# Altium footprint library DIP - LED Display.PcbLib: 44 footprints (part 2 of 3)
Each footprint in its own frame and in the unit in brackets; x right, y up, seen from the top. Pads: shape width x height; smd on the part's side, far side on the other; paste and mask are expansions set on the pad; w line width, h text height; cw(c..) or ccw(c..) is an arc to the next point about the centre after c.
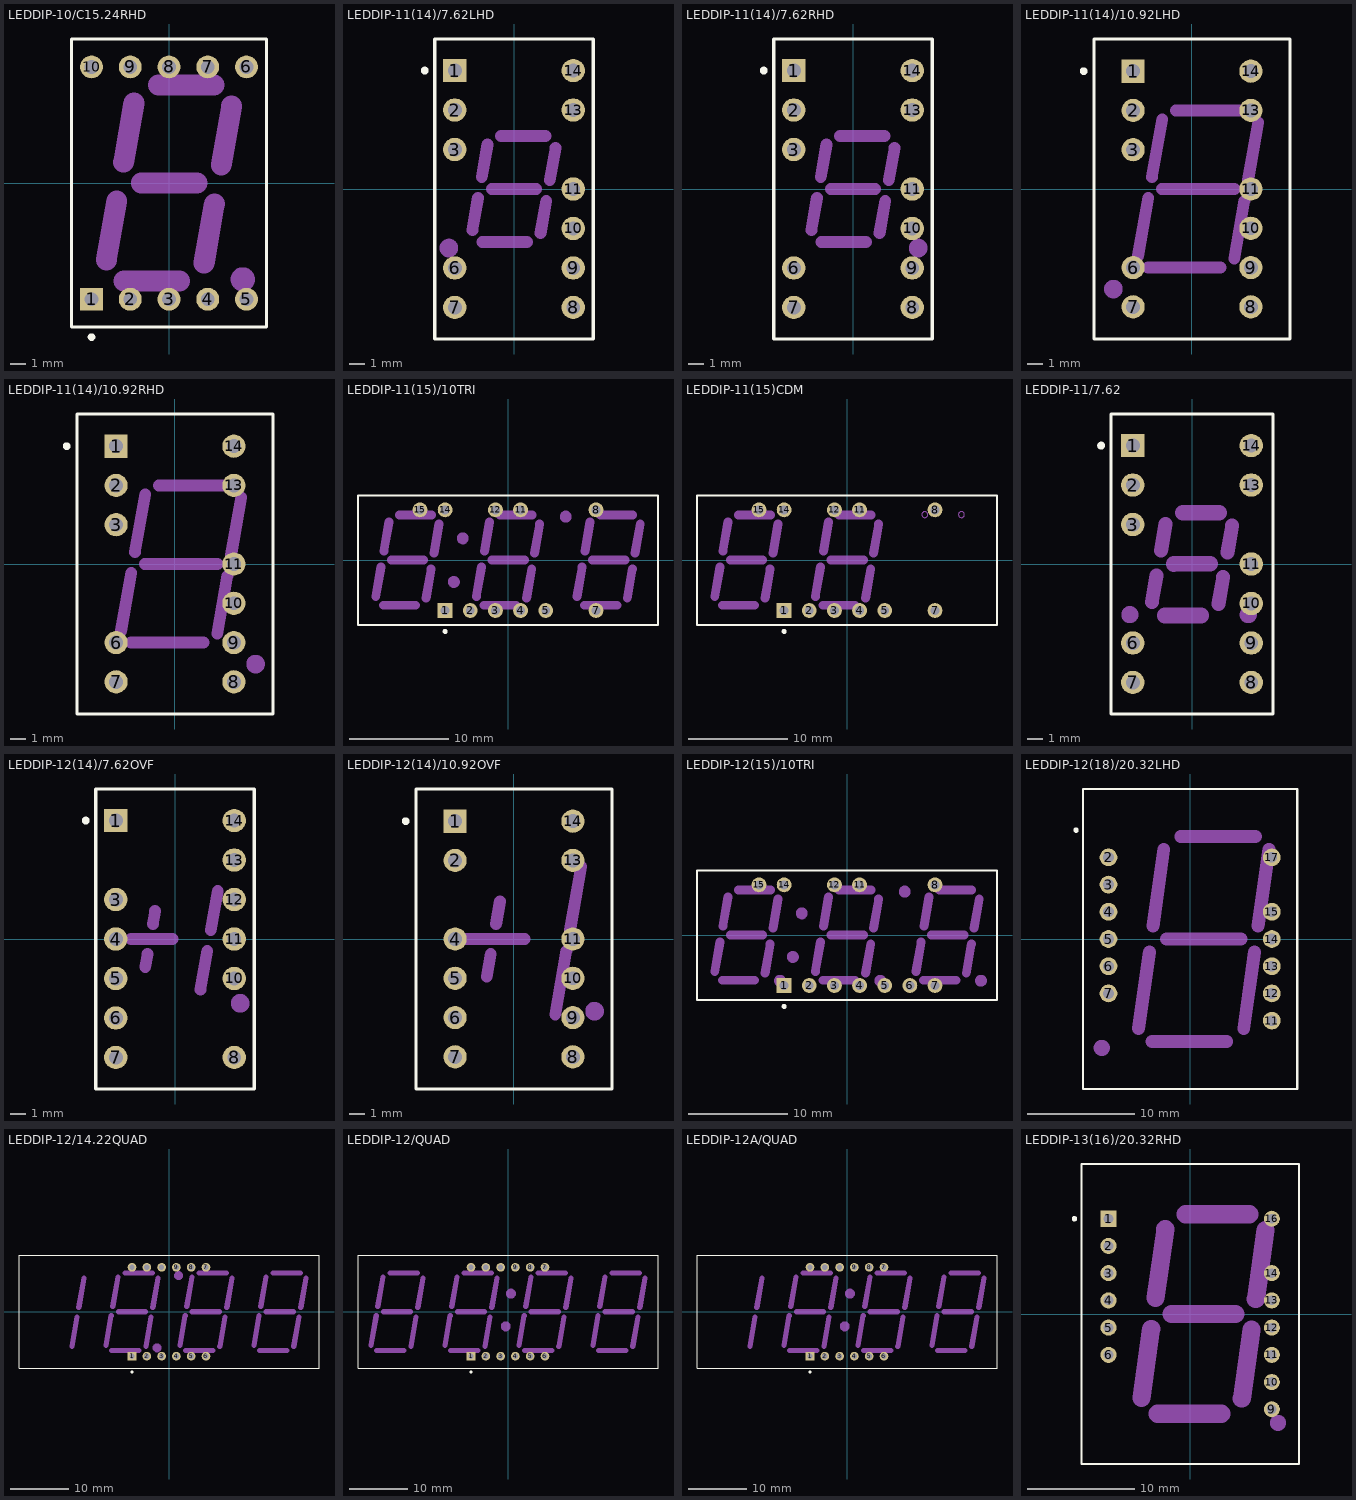
[diagram p1: the footprints below, top view; thin cyan lines are the x and y axes]

## LEDDIP-10/C15.24RHD [mm] "LED, 7-Segment Display, 14.2 mm, RHD; 10 Leads; Row Space 15.24 mm; Pitch 2.54 mm"
height 8.25
pads (10):
  rect 1.5x1.5 hole 0.9: 1(-5.08,-7.62)
  round 1.5 hole 0.9: 2(-2.54,-7.62) 3(0,-7.62) 4(2.54,-7.62) 5(5.08,-7.62) 6(5.08,7.62) 7(2.54,7.62) 8(0,7.62) 9(-2.54,7.62) 10(-5.08,7.62)
Top Overlay:
  circle w0.25: c-5.08,-10.1 r0.125
  lines w0.2: -6.4,-9.45 6.4,-9.45 6.4,9.45 -6.4,9.45 -6.4,-9.45
Mechanical 1:
  circle w1: c4.842,-6.316 r0.296
  lines w1.37: -4.108,-5.054 -3.425,-1.17 ; -2.974,1.368 -2.293,5.255 ; -2.958,-6.429 0.692,-6.426 ; -1.821,0 1.828,0 ; -0.689,6.425 2.96,6.425 ; 2.295,-5.256 2.98,-1.371 ; 3.427,1.169 4.11,5.058

## LEDDIP-11(14)/7.62LHD [mm] "LED, 7-Segment Display, 7.62 mm, LHD; 14 Leads (3 Absent); Row Space 7.62 mm; Pitch 2.54 mm"
height 6.35
pads (11):
  rect 1.5x1.5 hole 0.9: 1(-3.81,7.62)
  round 1.5 hole 0.9: 2(-3.81,5.08) 3(-3.81,2.54) 6(-3.81,-5.08) 7(-3.81,-7.62) 8(3.81,-7.62) 9(3.81,-5.08) 10(3.81,-2.54) 11(3.81,0) 13(3.81,5.08) 14(3.81,7.62)
Top Overlay:
  circle w0.25: c-5.75,7.62 r0.125
  lines w0.2: -5.1,-9.65 5.1,-9.65 5.1,9.65 -5.1,9.65 -5.1,-9.65
Mechanical 1:
  circle w0.86: c-4.19,-3.8 r0.17
  lines w0.762: -2.681,-2.652 -2.316,-0.564 ; -2.078,0.763 -1.71,2.857 ; -2.04,-3.419 0.824,-3.419 ; -1.43,0 1.43,0 ; -0.837,3.419 2.029,3.419 ; 1.699,-2.85 2.071,-0.764 ; 2.303,0.565 2.675,2.657

## LEDDIP-11(14)/7.62RHD [mm] "LED, 7-Segment Display, 7.62 mm, RHD; 14 Leads (3 Absent); Row Space 7.62 mm; Pitch 2.54 mm"
height 6.35
pads (11):
  rect 1.5x1.5 hole 0.9: 1(-3.81,7.62)
  round 1.5 hole 0.9: 2(-3.81,5.08) 3(-3.81,2.54) 6(-3.81,-5.08) 7(-3.81,-7.62) 8(3.81,-7.62) 9(3.81,-5.08) 10(3.81,-2.54) 11(3.81,0) 13(3.81,5.08) 14(3.81,7.62)
Top Overlay:
  circle w0.25: c-5.75,7.62 r0.125
  lines w0.2: -5.1,-9.65 5.1,-9.65 5.1,9.65 -5.1,9.65 -5.1,-9.65
Mechanical 1:
  circle w0.86: c4.19,-3.8 r0.17
  lines w0.762: -2.681,-2.652 -2.316,-0.564 ; -2.078,0.763 -1.71,2.857 ; -2.04,-3.419 0.824,-3.419 ; -1.43,0 1.43,0 ; -0.837,3.419 2.029,3.419 ; 1.699,-2.85 2.071,-0.764 ; 2.303,0.565 2.675,2.657

## LEDDIP-11(14)/10.92LHD [mm] "LED, 7-Segment Display, 10.92 mm, LHD; 14 Leads (3 Absent); Row Space 7.62 mm; Pitch 2.54 mm"
height 8.13
pads (11):
  rect 1.5x1.5 hole 0.9: 1(-3.81,7.62)
  round 1.5 hole 0.9: 2(-3.81,5.08) 3(-3.81,2.54) 6(-3.81,-5.08) 7(-3.81,-7.62) 8(3.81,-7.62) 9(3.81,-5.08) 10(3.81,-2.54) 11(3.81,0) 13(3.81,5.08) 14(3.81,7.62)
Top Overlay:
  circle w0.25: c-7,7.62 r0.125
  lines w0.2: -6.35,-9.7 6.35,-9.7 6.35,9.7 -6.35,9.7 -6.35,-9.7
Mechanical 1:
  circle w0.86: c-5.08,-6.47 r0.17
  lines w0.762: -3.488,-4.33 -2.824,-0.566 ; -2.843,-5.079 1.852,-5.079 ; -2.592,0.764 -1.928,4.516 ; -1.949,0 2.746,0 ; -1.053,5.079 3.643,5.079 ; 2.728,-4.511 3.39,-0.763 ; 3.619,0.556 4.284,4.316

## LEDDIP-11(14)/10.92RHD [mm] "LED, 7-Segment Display, 10.92 mm, RHD; 14 Leads (3 Absent); Row Space 7.62 mm; Pitch 2.54 mm"
height 8.13
pads (11):
  rect 1.5x1.5 hole 0.9: 1(-3.81,7.62)
  round 1.5 hole 0.9: 2(-3.81,5.08) 3(-3.81,2.54) 6(-3.81,-5.08) 7(-3.81,-7.62) 8(3.81,-7.62) 9(3.81,-5.08) 10(3.81,-2.54) 11(3.81,0) 13(3.81,5.08) 14(3.81,7.62)
Top Overlay:
  circle w0.25: c-7,7.62 r0.125
  lines w0.2: -6.35,-9.7 -6.35,9.7 6.35,9.7 6.35,-9.7 -6.35,-9.7
Mechanical 1:
  circle w0.86: c5.21,-6.47 r0.17
  lines w0.762: -3.488,-4.33 -2.824,-0.566 ; -2.843,-5.079 1.852,-5.079 ; -2.592,0.764 -1.928,4.516 ; -1.949,0 2.746,0 ; -1.053,5.079 3.643,5.079 ; 2.728,-4.511 3.39,-0.763 ; 3.619,0.556 4.284,4.316

## LEDDIP-11(15)/10TRI [mm] "LED, 7-Segment Display, 10 mm, Three Digit; 15 Leads (4 Absent); Row Space 10.16 mm; Pitch 2.54 mm"
height 7.25
pads (11):
  rect 1.5x1.5 hole 0.9: 1(-6.35,-5.08)
  round 1.5 hole 0.9: 2(-3.81,-5.08) 3(-1.27,-5.08) 4(1.27,-5.08) 5(3.81,-5.08) 7(8.89,-5.08) 8(8.89,5.08) 11(1.27,5.08) 12(-1.27,5.08) 14(-6.35,5.08) 15(-8.89,5.08)
Top Overlay:
  circle w0.25: c-6.35,-7.2 r0.125
  lines w0.2: -15.15,-6.55 15.15,-6.55 15.15,6.55 -15.15,6.55 -15.15,-6.55
Mechanical 1:
  circle w0.86: c5.83,4.4 r0.17
  circle w0.86: c-5.47,-2.2 r0.17
  circle w0.86: c-4.57,2.2 r0.17
  lines w0.9: -13.36,-3.65 -12.83,-0.7 ; -12.592,-4.55 -9.33,-4.55 ; -12.54,0.9 -12.03,3.84 ; -11.79,0 -8.51,0 ; -10.988,4.55 -7.72,4.55 ; -8.28,-3.85 -7.76,-0.9 ; -7.48,0.7 -6.96,3.65 ; -3.2,-3.65 -2.67,-0.7 ; -2.432,-4.55 0.83,-4.55 ; -2.38,0.9 -1.87,3.84 ; -1.63,0 1.65,0 ; -0.828,4.55 2.44,4.55 ; 1.88,-3.85 2.4,-0.9 ; 2.68,0.7 3.2,3.65 ; 6.96,-3.65 7.49,-0.7 ; 7.728,-4.55 10.99,-4.55 ; 7.78,0.9 8.29,3.84 ; 8.53,0 11.81,0 ; 9.332,4.55 12.6,4.55 ; 12.04,-3.85 12.56,-0.9 ; 12.84,0.7 13.36,3.65

## LEDDIP-11(15)CDM [mm] "LED, Custom Display Module; 15 Leads (4 Absent); Row Space 10.16 mm; Pitch 2.54 mm"
height 7.25
pads (11):
  rect 1.5x1.5 hole 0.9: 1(-6.35,-5.08)
  round 1.5 hole 0.9: 2(-3.81,-5.08) 3(-1.27,-5.08) 4(1.27,-5.08) 5(3.81,-5.08) 7(8.89,-5.08) 8(8.89,5.08) 11(1.27,5.08) 12(-1.27,5.08) 14(-6.35,5.08) 15(-8.89,5.08)
Top Overlay:
  circle w0.25: c-6.35,-7.2 r0.125
  lines w0.2: -15.15,-6.55 -15.15,6.55 15.15,6.55 15.15,-6.55 -15.15,-6.55
Mechanical 1:
  circle w0.1: c11.56,4.6 r0.3
  circle w0.1: c7.86,4.6 r0.3
  lines w0.9: -13.36,-3.65 -12.83,-0.7 ; -12.592,-4.55 -9.33,-4.55 ; -12.54,0.9 -12.03,3.84 ; -11.79,0 -8.51,0 ; -10.988,4.55 -7.72,4.55 ; -8.28,-3.85 -7.76,-0.9 ; -7.48,0.7 -6.96,3.65 ; -3.2,-3.65 -2.67,-0.7 ; -2.432,-4.55 0.83,-4.55 ; -2.38,0.9 -1.87,3.84 ; -1.63,0 1.65,0 ; -0.828,4.55 2.44,4.55 ; 1.88,-3.85 2.4,-0.9 ; 2.68,0.7 3.2,3.65
  text "F" at 8.86,2.4 h2
  text "MINS" at 7.96,-1 h2
  text "C" at 12.36,2.4 h2
  text "HRS" at 8.36,-4.4 h2

## LEDDIP-11/7.62 [mm] "LED, 7-Segment Display, 7.62 mm, LHD; 14 Leads; Row Space 7.62 mm; Pitch 2.54 mm"
height 6.35
pads (11):
  rect 1.5x1.5 hole 0.9: 1(-3.81,7.62)
  round 1.5 hole 0.9: 2(-3.81,5.08) 3(-3.81,2.54) 6(-3.81,-5.08) 7(-3.81,-7.62) 8(3.81,-7.62) 9(3.81,-5.08) 10(3.81,-2.54) 11(3.81,0) 13(3.81,5.08) 14(3.81,7.62)
Top Overlay:
  circle w0.25: c-5.85,7.62 r0.125
  lines w0.2: -5.2,-9.65 5.2,-9.65 5.2,9.65 -5.2,9.65 -5.2,-9.65
Mechanical 1:
  circle w0.85: c3.62,-3.26 r0.126
  circle w0.85: c-4,-3.26 r0.126
  lines w0.9: -2.585,-2.458 -2.284,-0.752 ; -2.003,0.855 -1.699,2.559 ; 1.698,-2.559 2.002,-0.835 ; 2.28,0.751 2.582,2.47
  lines w1: -1.769,-3.312 0.598,-3.312 ; -1.183,0 1.179,0.004 ; -0.601,3.309 1.766,3.311

## LEDDIP-12(14)/7.62OVF [mm] "LED, Universal ±1 Overflow, 7.62 mm, RHD; 14 Leads (2 Absent); Row Space 7.62 mm; Pitch 2.54 mm"
height 6.35
pads (12):
  rect 1.5x1.5 hole 0.9: 1(-3.81,7.62)
  round 1.5 hole 0.9: 3(-3.81,2.54) 4(-3.81,0) 5(-3.81,-2.54) 6(-3.81,-5.08) 7(-3.81,-7.62) 8(3.81,-7.62) 10(3.81,-2.54) 11(3.81,0) 12(3.81,2.54) 13(3.81,5.08) 14(3.81,7.62)
Top Overlay:
  circle w0.25: c-5.75,7.62 r0.125
  lines w0.2: -5.1,-9.65 5.1,-9.65 5.1,9.65 -5.1,9.65 -5.1,-9.65
Mechanical 1:
  circle w0.86: c4.19,-4.139 r0.17
  lines w0.762: -2.83,0 -0.17,0 ; -1.911,-1.799 -1.764,-0.962 ; -1.427,0.961 -1.28,1.8 ; 1.63,-3.262 2.071,-0.764 ; 2.303,0.565 2.747,3.084

## LEDDIP-12(14)/10.92OVF [mm] "LED, Universal ±1 Overflow, 10.92 mm, RHD; 14 Leads (2 Absent); Row Space 7.62 mm; Pitch 2.54 mm"
height 8.13
pads (12):
  rect 1.5x1.5 hole 0.9: 1(-3.81,7.62)
  round 1.5 hole 0.9: 2(-3.81,5.08) 4(-3.81,0) 5(-3.81,-2.54) 6(-3.81,-5.08) 7(-3.81,-7.62) 8(3.81,-7.62) 9(3.81,-5.08) 10(3.81,-2.54) 11(3.81,0) 13(3.81,5.08) 14(3.81,7.62)
Top Overlay:
  circle w0.25: c-7,7.62 r0.125
  lines w0.2: -6.35,-9.7 6.35,-9.7 6.35,9.7 -6.35,9.7 -6.35,-9.7
Mechanical 1:
  circle w0.86: c5.21,-4.67 r0.17
  lines w0.762: -3.395,0 0.7,0 ; -1.764,-2.435 -1.506,-0.963 ; -1.167,0.961 -0.908,2.436 ; 2.661,-4.885 3.39,-0.763 ; 3.619,0.556 4.351,4.692

## LEDDIP-12(15)/10TRI [mm] "LED, 7-Segment Display, 10 mm, Three Digit; 15 Leads (3 Absent); Row Space 10.16 mm; Pitch 2.54 mm"
height 7.25
pads (12):
  rect 1.5x1.5 hole 0.9: 1(-6.35,-5.08)
  round 1.5 hole 0.9: 2(-3.81,-5.08) 3(-1.27,-5.08) 4(1.27,-5.08) 5(3.81,-5.08) 6(6.35,-5.08) 7(8.89,-5.08) 8(8.89,5.08) 11(1.27,5.08) 12(-1.27,5.08) 14(-6.35,5.08) 15(-8.89,5.08)
Top Overlay:
  circle w0.25: c-6.35,-7.2 r0.125
  lines w0.2: -15.15,-6.55 -15.15,6.55 15.15,6.55 15.15,-6.55 -15.15,-6.55
Mechanical 1:
  circle w0.86: c13.53,-4.6 r0.17
  circle w0.86: c-4.57,2.2 r0.17
  circle w0.86: c-6.77,-4.6 r0.17
  circle w0.86: c-5.47,-2.2 r0.17
  circle w0.86: c3.37,-4.6 r0.17
  circle w0.86: c5.83,4.4 r0.17
  lines w0.9: -13.36,-3.65 -12.83,-0.7 ; -12.592,-4.55 -9.33,-4.55 ; -12.54,0.9 -12.03,3.84 ; -11.79,0 -8.51,0 ; -10.988,4.55 -7.72,4.55 ; -8.28,-3.85 -7.76,-0.9 ; -7.48,0.7 -6.96,3.65 ; -3.2,-3.65 -2.67,-0.7 ; -2.432,-4.55 0.83,-4.55 ; -2.38,0.9 -1.87,3.84 ; -1.63,0 1.65,0 ; -0.828,4.55 2.44,4.55 ; 1.88,-3.85 2.4,-0.9 ; 2.68,0.7 3.2,3.65 ; 6.96,-3.65 7.49,-0.7 ; 7.728,-4.55 10.99,-4.55 ; 7.78,0.9 8.29,3.84 ; 8.53,0 11.81,0 ; 9.332,4.55 12.6,4.55 ; 12.04,-3.85 12.56,-0.9 ; 12.84,0.7 13.36,3.65

## LEDDIP-12(18)/20.32LHD [mm] "LED, 7-Segment Display, 20.32 mm, LHD; 18 Leads (6 Absent); Row Space 15.24 mm; Pitch 2.54 mm"
height 8.64
pads (12):
  round 1.65 hole 1: 2(-7.62,7.62) 3(-7.62,5.08) 4(-7.62,2.54) 5(-7.62,0) 6(-7.62,-2.54) 7(-7.62,-5.08) 11(7.62,-7.62) 12(7.62,-5.08) 13(7.62,-2.54) 14(7.62,0) 15(7.62,2.54) 17(7.62,7.62)
Top Overlay:
  circle w0.25: c-10.65,10.16 r0.125
  lines w0.2: -10,-14 -10,14 10,14 10,-14 -10,-14
Mechanical 1:
  circle w1.2: c-8.25,-10.16 r0.15
  lines w1.2: -4.81,-8.36 -3.8,-1.2 ; -3.57,-9.56 3.42,-9.56 ; -3.47,1.2 -2.46,8.38 ; -2.22,0 4.76,0 ; -0.88,9.56 6.11,9.56 ; 5,-8.36 6,-1.2 ; 6.34,1.2 7.35,8.37

## LEDDIP-12/14.22QUAD [mm] "LED, 7-Segment Display, 14.22 mm, Four Digit, 18:88; 12 Leads; Row Space 15.24 mm; Pitch 2.54 mm"
height 8.26
pads (12):
  rect 1.5x1.5 hole 0.9: 1(-6.35,-7.62)
  round 1.5 hole 0.9: 2(-3.81,-7.62) 3(-1.27,-7.62) 4(1.27,-7.62) 5(3.81,-7.62) 6(6.35,-7.62) 7(6.35,7.62) 8(3.81,7.62) 9(1.27,7.62) 10(-1.27,7.62) 11(-3.81,7.62) 12(-6.35,7.62)
Top Overlay:
  circle w0.25: c-6.35,-10.35 r0.125
  lines w0.2: -25.75,-9.7 25.75,-9.7 25.75,9.7 -25.75,9.7 -25.75,-9.7
Mechanical 1:
  circle w1.38: c-2.05,-6.2 r0.065
  circle w1.38: c1.65,6.2 r0.065
  lines w0.9: -16.67,-5.95 -15.78,-0.9 ; -15.49,0.71 -14.6,5.76 ; -10.83,-5.76 -9.93,-0.69 ; -9.87,-6.65 -5.2,-6.65 ; -9.65,0.9 -8.76,5.96 ; -8.69,0 -4.03,0 ; -7.53,6.65 -2.86,6.65 ; -3.97,-5.95 -3.08,-0.9 ; -2.79,0.71 -1.9,5.76 ; 1.87,-5.76 2.77,-0.69 ; 2.83,-6.65 7.5,-6.65 ; 3.05,0.9 3.94,5.96 ; 4.01,0 8.67,0 ; 5.17,6.65 9.84,6.65 ; 8.73,-5.95 9.62,-0.9 ; 9.91,0.71 10.8,5.76 ; 14.57,-5.76 15.47,-0.69 ; 15.53,-6.65 20.2,-6.65 ; 15.75,0.9 16.64,5.96 ; 16.71,0 21.37,0 ; 17.87,6.65 22.54,6.65 ; 21.43,-5.95 22.32,-0.9 ; 22.61,0.71 23.5,5.76

## LEDDIP-12/QUAD [mm] "LED, 7-Segment Display, 14.22 mm, Four Digit, 88:88; 12 Leads; Row Space 15.24 mm; Pitch 2.54 mm"
height 8.26
pads (12):
  rect 1.5x1.5 hole 0.9: 1(-6.35,-7.62)
  round 1.5 hole 0.9: 2(-3.81,-7.62) 3(-1.27,-7.62) 4(1.27,-7.62) 5(3.81,-7.62) 6(6.35,-7.62) 7(6.35,7.62) 8(3.81,7.62) 9(1.27,7.62) 10(-1.27,7.62) 11(-3.81,7.62) 12(-6.35,7.62)
Top Overlay:
  circle w0.25: c-6.35,-10.35 r0.125
  lines w0.2: -25.75,-9.7 -25.75,9.7 25.75,9.7 25.75,-9.7 -25.75,-9.7
Mechanical 1:
  circle w1.4: c0.505,3.1 r0.15
  circle w1.4: c-0.395,-2.5 r0.15
  lines w0.9: -23.53,-5.76 -22.63,-0.69 ; -22.57,-6.66 -17.9,-6.67 ; -22.35,0.9 -21.46,5.96 ; -21.39,0 -16.73,0 ; -20.23,6.66 -15.56,6.66 ; -16.67,-5.95 -15.78,-0.9 ; -15.49,0.71 -14.6,5.76 ; -10.83,-5.76 -9.93,-0.69 ; -9.87,-6.66 -5.2,-6.67 ; -9.65,0.9 -8.76,5.96 ; -8.69,0 -4.03,0 ; -7.53,6.66 -2.86,6.66 ; -3.97,-5.95 -3.08,-0.9 ; -2.79,0.71 -1.9,5.76 ; 1.87,-5.76 2.77,-0.69 ; 2.83,-6.66 7.5,-6.67 ; 3.05,0.9 3.94,5.96 ; 4.01,0 8.67,0 ; 5.17,6.66 9.84,6.66 ; 8.73,-5.95 9.62,-0.9 ; 9.91,0.71 10.8,5.76 ; 14.57,-5.76 15.47,-0.69 ; 15.53,-6.66 20.2,-6.67 ; 15.75,0.9 16.64,5.96 ; 16.71,0 21.37,0 ; 17.87,6.66 22.54,6.66 ; 21.43,-5.95 22.32,-0.9 ; 22.61,0.71 23.5,5.76

## LEDDIP-12A/QUAD [mm] "LED, 7-Segment Display, 14.22 mm, Four Digit, 18:88; 12 Leads; Row Space 15.24 mm; Pitch 2.54 mm"
height 8.26
pads (12):
  rect 1.5x1.5 hole 0.9: 1(-6.35,-7.62)
  round 1.5 hole 0.9: 2(-3.81,-7.62) 3(-1.27,-7.62) 4(1.27,-7.62) 5(3.81,-7.62) 6(6.35,-7.62) 7(6.35,7.62) 8(3.81,7.62) 9(1.27,7.62) 10(-1.27,7.62) 11(-3.81,7.62) 12(-6.35,7.62)
Top Overlay:
  circle w0.25: c-6.35,-10.35 r0.125
  lines w0.2: -25.75,-9.7 25.75,-9.7 25.75,9.7 -25.75,9.7 -25.75,-9.7
Mechanical 1:
  circle w1.4: c-0.395,-2.5 r0.15
  circle w1.4: c0.505,3.1 r0.15
  lines w0.9: -16.67,-5.95 -15.78,-0.9 ; -15.49,0.71 -14.6,5.76 ; -10.83,-5.76 -9.93,-0.69 ; -9.87,-6.66 -5.2,-6.67 ; -9.65,0.9 -8.76,5.96 ; -8.69,0 -4.03,0 ; -7.53,6.66 -2.86,6.66 ; -3.97,-5.95 -3.08,-0.9 ; -2.79,0.71 -1.9,5.76 ; 1.87,-5.76 2.77,-0.69 ; 2.83,-6.66 7.5,-6.67 ; 3.05,0.9 3.94,5.96 ; 4.01,0 8.67,0 ; 5.17,6.66 9.84,6.66 ; 8.73,-5.95 9.62,-0.9 ; 9.91,0.71 10.8,5.76 ; 14.57,-5.76 15.47,-0.69 ; 15.53,-6.66 20.2,-6.67 ; 15.75,0.9 16.64,5.96 ; 16.71,0 21.37,0 ; 17.87,6.66 22.54,6.66 ; 21.43,-5.95 22.32,-0.9 ; 22.61,0.71 23.5,5.76

## LEDDIP-13(16)/20.32RHD [mm] "LED, 7-Segment Display, 20.32 mm, RHD; 16 Leads (3 Absent); Row Space 15.24 mm; Pitch 2.54 mm"
height 8.64
pads (13):
  rect 1.5x1.5 hole 0.9: 1(-7.62,8.89)
  round 1.5 hole 0.9: 2(-7.62,6.35) 3(-7.62,3.81) 4(-7.62,1.27) 5(-7.62,-1.27) 6(-7.62,-3.81) 9(7.62,-8.89) 10(7.62,-6.35) 11(7.62,-3.81) 12(7.62,-1.27) 13(7.62,1.27) 14(7.62,3.81) 16(7.62,8.89)
Top Overlay:
  circle w0.25: c-10.8,8.89 r0.125
  lines w0.2: -10.15,-14 -10.15,14 10.15,14 10.15,-14 -10.15,-14
Mechanical 1:
  circle w1.2: c8.2,-10.16 r0.15
  lines w1.7: -4.535,-7.824 -3.634,-1.398 ; -3.227,1.485 -2.322,7.91 ; -3.023,-9.311 2.907,-9.307 ; -1.716,0 4.216,0 ; -0.404,9.31 5.524,9.31 ; 4.821,-7.9 5.728,-1.478 ; 6.132,1.404 7.038,7.827